# EAGLE library part UC_ATTINY414 (library fab_new)
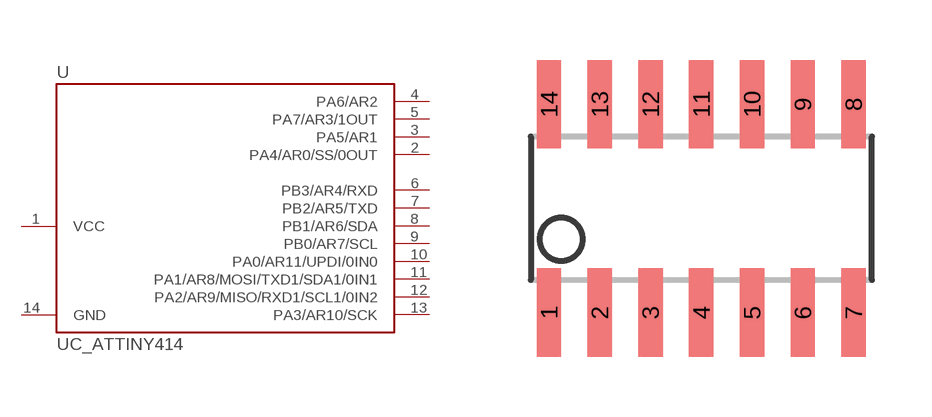
[diagram p25: symbol with the pads of SOIC14; footprint SOIC14]

Designator prefix -

## UC_ATTINY414  [SOIC14]
1  VCC  pwr
2  PA4/AR0/SS/0OUT
3  PA5/AR1
4  PA6/AR2
5  PA7/AR3/1OUT
6  PB3/AR4/RXD
7  PB2/AR5/TXD
8  PB1/AR6/SDA
9  PB0/AR7/SCL
10  PA0/AR11/UPDI/0IN0
11  PA1/AR8/MOSI/TXD1/SDA1/0IN1
12  PA2/AR9/MISO/RXD1/SCL1/0IN2
13  PA3/AR10/SCK
14  GND  pwr

## Footprint SOIC14 (pad centres in mm)
Small Outline Package
smd 0.61 x 2.21: 1 -3.81,-2.603; 2 -2.54,-2.603; 3 -1.27,-2.603; 4 0,-2.603; 5 1.27,-2.603; 6 2.54,-2.603; 7 3.81,-2.603; 8 3.81,2.603; 9 2.54,2.603; 10 1.27,2.603; 11 0,2.603; 12 -1.27,2.603; 13 -2.54,2.603; 14 -3.81,2.603